# EAGLE library part NC7WZ16 (library work)
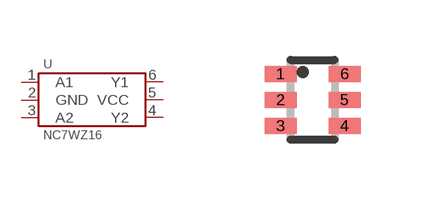
[diagram p91: symbol with the pads of SOT-363; footprint SOT-363]

Designator prefix U

## NC7WZ16  [SOT-363]
1  A1
2  GND
3  A2
4  Y2
5  VCC
6  Y1

## Footprint SOT-363 (pad centres in mm)
smd 0.8 x 0.4: 1 -0.8,0.65; 2 -0.8,0; 3 -0.8,-0.65; 4 0.8,-0.65; 5 0.8,0; 6 0.8,0.65